# Altium footprint library kycon-dc-pwr.PcbLib: 1 footprints
Each footprint in its own frame and in the unit in brackets; x right, y up, seen from the top. Pads: shape width x height; smd on the part's side, far side on the other; paste and mask are expansions set on the pad; w line width, h text height; cw(c..) or ccw(c..) is an arc to the next point about the centre after c.
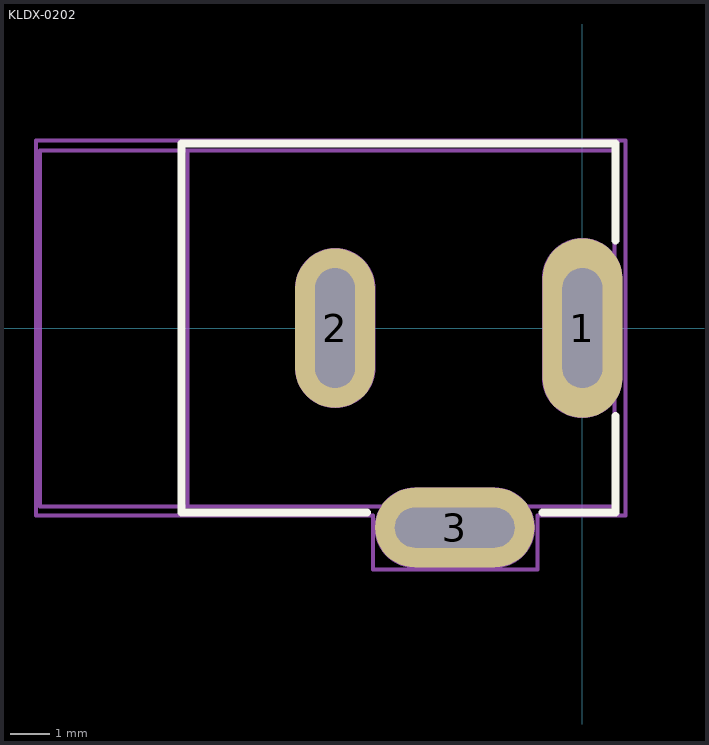
[diagram p0: the footprint, top view; thin cyan lines are the x and y axes]

## KLDX-0202 [mm] "DC Power Jack, 2.0mm, KLD Series, PCB Mount"
pads (3):
  oval 2x4.5 hole 1 slot 3 at 90 deg: 1(0,0)
  oval 2x4 hole 1 slot 3 at 90 deg: 2(-6.2,0)
  oval 4x2 hole 1 slot 3 at 0 deg: 3(-3.2,-5)
Top Overlay:
  lines w0.2: -5.4,-4.625 -10.05,-4.625 -10.05,4.625 0.825,4.625 0.825,2.2 ; -1,-4.625 0.825,-4.625 0.825,-2.2
Mechanical 13:
  lines w0.1: -9.9,-4.475 -9.9,4.45 ; -0.5,0 0.5,0 ; 0,-0.5 0,0.5 ; -13.6,-4.475 0.8,-4.475 0.8,4.45 -13.6,4.45 -13.6,-4.475
  lines w2.016: -6.2,-1 -6.2,1 ; -4.2,-5 -2.2,-5 ; 0,-1.25 0,1.25
Mechanical 15:
  lines w0.1: -13.7,-4.7 -5.25,-4.7 -5.25,-6.05 -1.125,-6.05 -1.125,-4.7 1.075,-4.7 1.075,4.7 -13.7,4.7 -13.7,-4.7
  text ".Designator" at -4.825,-0.225 h0.5
3D body: height 11.18, standoff -3.6, extent -13.703,-4.886 0.775,4.586